# Altium footprint library Wire_to_Board.PcbLib: 2 footprints
Each footprint in its own frame and in the unit in brackets; x right, y up, seen from the top. Pads: shape width x height; smd on the part's side, far side on the other; paste and mask are expansions set on the pad; w line width, h text height; cw(c..) or ccw(c..) is an arc to the next point about the centre after c.
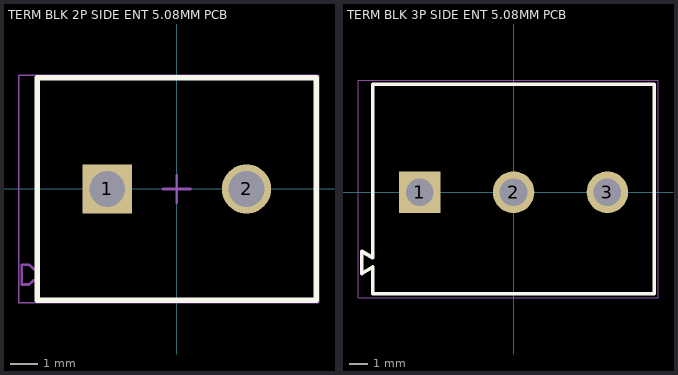
[diagram p0: the footprints below, top view; thin cyan lines are the x and y axes]

## TERM BLK 2P SIDE ENT 5.08MM PCB [mm] "TERM BLK 2P SIDE ENT 5.08MM PCB"
pads (2):
  rect 1.8x1.8 hole 1.3: 1(-2.54,0)
  round 1.8 hole 1.3: 2(2.54,0)
Top Overlay:
  lines w0.2: -5.08,-4.05 -5.08,4.05 5.08,4.05 5.08,-4.05 -5.08,-4.05
Top Component Center:
  lines w0.1: -0.5,0 0.5,0 ; 0,-0.5 0,0.5
Top Component Outline:
  lines w0.1: -5.08,-3.327 -5.209,-3.327 -5.387,-3.477 -5.65,-3.477 -5.65,-2.763 ; -5.08,-2.913 -5.209,-2.913 -5.387,-2.763 -5.65,-2.763 ; -5.65,-2.763 -5.65,-2.763 ; -5.08,-4.05 -5.08,4.05 5.08,4.05 5.08,-4.05 -5.08,-4.05
Top Courtyard:
  lines w0.05: -5.75,-4.15 5.18,-4.15 5.18,4.15 -5.75,4.15 -5.75,-4.15
Top Designator:
  text ".Designator" at -7.63,-0.521 h1.52
3D body "1729128.stp": height 10.01, standoff -3.49, extent -5.65,-4.05 5.08,4.05

## TERM BLK 3P SIDE ENT 5.08MM PCB [mm] "TERM BLK 3P SIDE ENT 5.08MM PCB"
pads (3):
  rect 2.25x2.25 hole 1.5: 1(-5.08,0)
  round 2.25 hole 1.5: 2(0,0) 3(5.08,0)
Top Overlay:
  lines w0.2: -7.621,-4.048 -8.22,-4.4 -8.22,-3.2 -7.621,-3.552 ; -7.62,-4.05 -7.62,-5.5 7.62,-5.5 7.62,5.85 -7.62,5.85 -7.62,-3.551
Top Component Center:
  lines w0.05: -0.5,0 0.5,0 ; 0,-0.5 0,0.5
Top Component Outline:
  lines w0.1: -7.621,-4.048 -8.22,-4.4 -8.22,-3.2 -7.621,-3.552 ; -7.62,-4.05 -7.62,-5.5 7.62,-5.5 7.62,5.85 -7.62,5.85 -7.62,-3.551
Top Courtyard:
  lines w0.05: -8.42,-5.7 -8.42,6.05 7.82,6.05 7.82,-5.7 -8.42,-5.7
Top Designator:
  text ".Designator" at -7.63,-0.521 h1.52
3D body "691236510003.stp": height 18.1, standoff -3.9, extent -8.22,-5.5 7.62,5.85